# Altium integrated library WCAP-ATG5_22X31.IntLib: 1 symbol
Pins are listed as number, name and electrical type; pins without a type are passive.

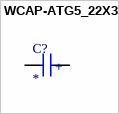
[diagram p0: symbol WCAP-ATG5_22X31]

## WCAP-ATG5_22X31
designator C?
CAP ALUM 150UF 20% 400V RADIAL; MF: WÃ¼rth Elektronik; MP: 860021383023; SnapEDA_Link: https://www.snapeda.com/parts/860021383023/W%25C3%25BCrth+Elektronik+Midcom/view-part/?ref=snap; Package: Radial WÃ¼rth Elektronik; Value: *; Check_prices: https://www.snapeda.com/parts/860021383023/W%25C3%25BCrth+Elektronik+Midcom/view-part/?ref=eda
footprint WCAP-ATG5_22X31(DXL)
pins: 1 POS, 2 NEG
text: +